# EAGLE library part 2514-6002UB (library 3M_By_element14_Batch_1)
Four-Wall Header
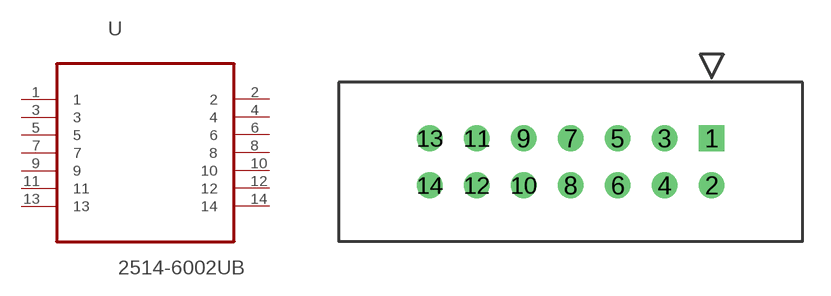
[diagram p18: symbol with the pads of 3M_2514-6002UB; footprint 3M_2514-6002UB]

Designator prefix -

## 2514-6002UB (MPN: 2514-6002UB; OC_FARNELL: 1368928; OC_NEWARK: 46F4726; PACKAGE: Four-Wall Header, 14way; SUPPLIER: 3M)  [3M_2514-6002UB]
1  1  pas
2  2  pas
3  3  pas
4  4  pas
5  5  pas
6  6  pas
7  7  pas
8  8  pas
9  9  pas
10  10  pas
11  11  pas
12  12  pas
13  13  pas
14  14  pas

## Footprint 3M_2514-6002UB (pad centres in mm)
drill 0.889 square: 1 0,2.54
drill 0.889: 2 0,0; 3 -2.54,2.54; 4 -2.54,0; 5 -5.08,2.54; 6 -5.08,0; 7 -7.62,2.54; 8 -7.62,0; 9 -10.16,2.54; 10 -10.16,0; 11 -12.7,2.54; 12 -12.7,0; 13 -15.24,2.54; 14 -15.24,0